# EAGLE library part BH1750FVI (library GRITSBot)
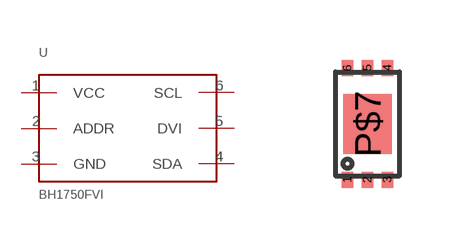
[diagram p11: symbol with the pads of WSOF6; footprint WSOF6]

Designator prefix -

## BH1750FVI  [WSOF6]
1  VCC
2  ADDR
3  GND
4  SDA
5  DVI
6  SCL

## Footprint WSOF6 (pad centres in mm)
smd 0.3 x 0.4: 1 -0.5,-1.3; 2 0,-1.3; 3 0.5,-1.3; 4 0.5,1.5; 5 0,1.5; 6 -0.5,1.5
smd 1.2 x 1.5: P$7 0,0.1